# EAGLE library part EPM570T144C3N (library SamacSys_Parts)
CPLD, MAX II Source: Datasheet <https://www.intel.com/content/dam/altera-www/global/en_US/pdfs/literature/packaging/04R00366-04.pdf>
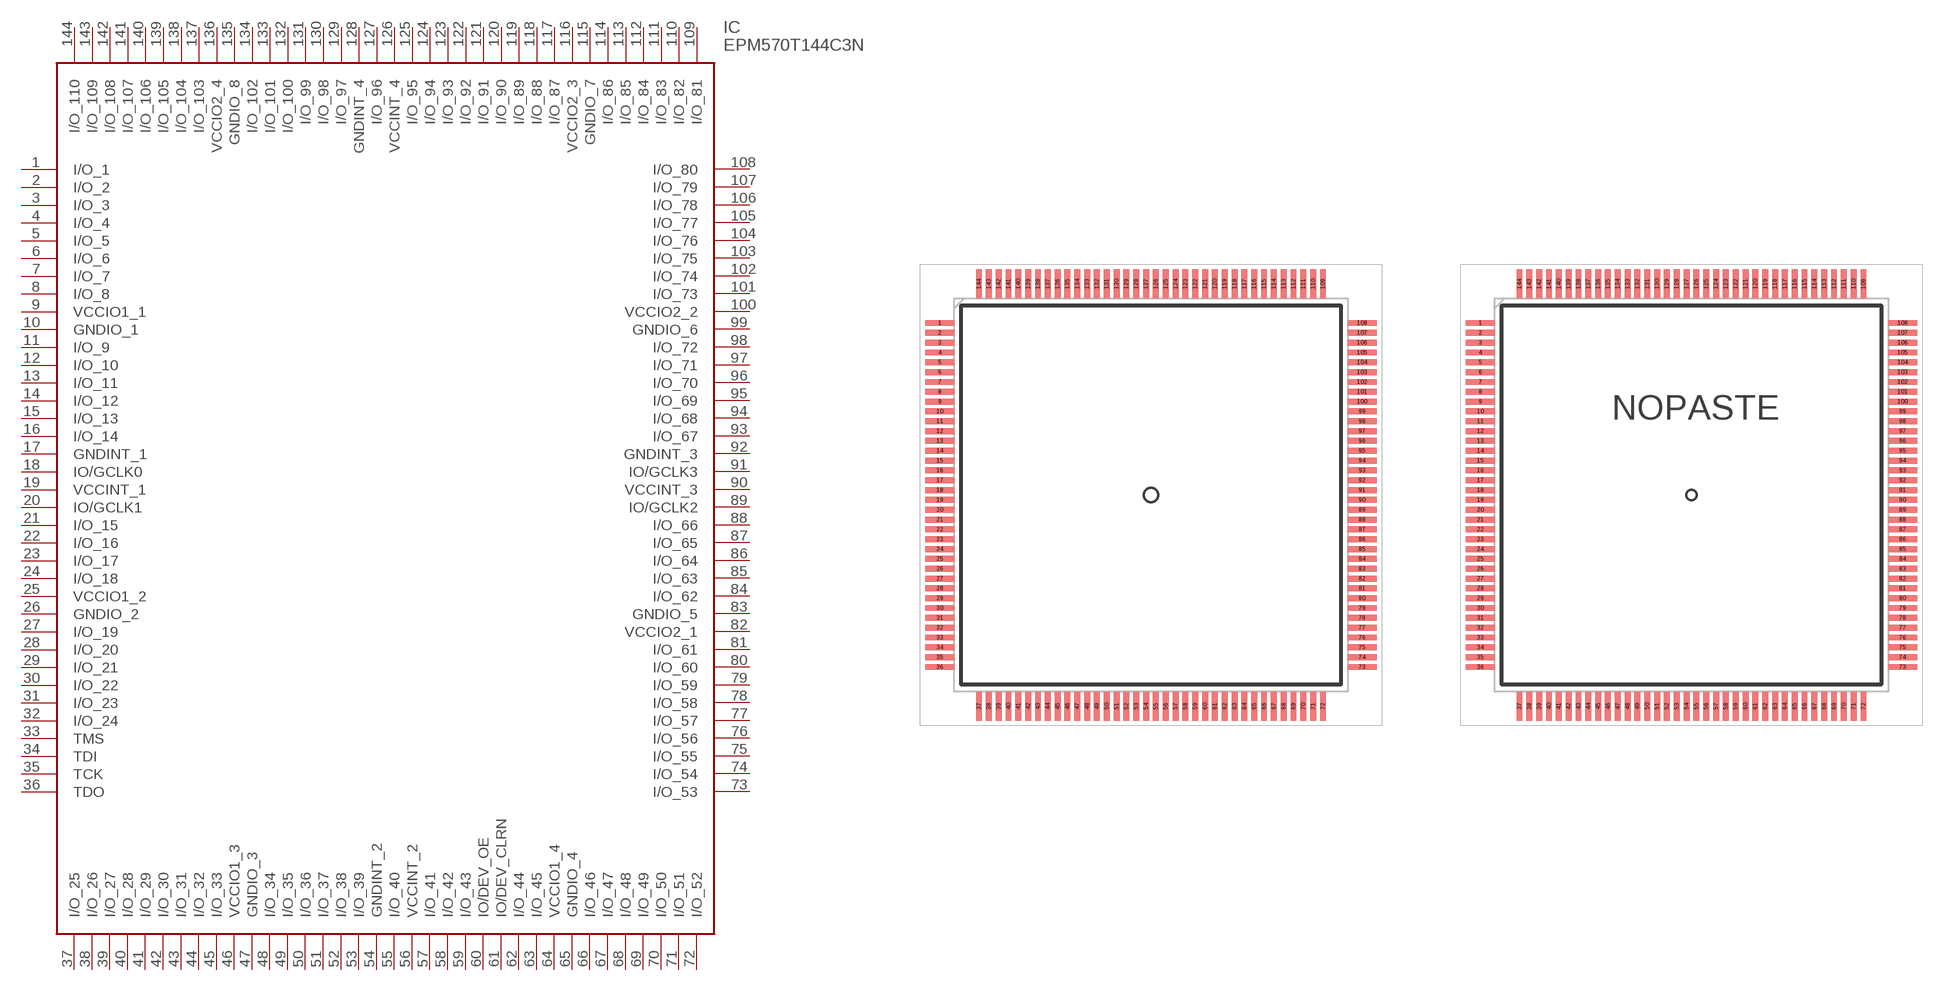
[diagram p214: symbol with the pads of QFP50P2200X2200X160-144N; footprints QFP50P2200X2200X160-144N, QFP50P2200X2000_NOPASTE]

Designator prefix IC

## EPM570T144C3NPASTE (DESCRIPTION: CPLD, MAX II; HEIGHT: 1.6mm; MANUFACTURER_NAME: Intel; MANUFACTURER_PART_NUMBER: EPM570T144C3N; MOUSER_PART_NUMBER: 989-EPM570T144C3N; MOUSER_PRICE-STOCK: https://www.mouser.co.uk/ProductDetail/Intel-Altera/EPM570T144C3N?qs=jblrfmjbeiFMgNt%252B7NATog%3D%3D)  [QFP50P2200X2200X160-144N]
1  I/O_1
2  I/O_2
3  I/O_3
4  I/O_4
5  I/O_5
6  I/O_6
7  I/O_7
8  I/O_8
9  VCCIO1_1
10  GNDIO_1
11  I/O_9
12  I/O_10
13  I/O_11
14  I/O_12
15  I/O_13
16  I/O_14
17  GNDINT_1
18  IO/GCLK0
19  VCCINT_1
20  IO/GCLK1
21  I/O_15
22  I/O_16
23  I/O_17
24  I/O_18
25  VCCIO1_2
26  GNDIO_2
27  I/O_19
28  I/O_20
29  I/O_21
30  I/O_22
31  I/O_23
32  I/O_24
33  TMS
34  TDI
35  TCK
36  TDO
37  I/O_25
38  I/O_26
39  I/O_27
40  I/O_28
41  I/O_29
42  I/O_30
43  I/O_31
44  I/O_32
45  I/O_33
46  VCCIO1_3
47  GNDIO_3
48  I/O_34
49  I/O_35
50  I/O_36
51  I/O_37
52  I/O_38
53  I/O_39
54  GNDINT_2
55  I/O_40
56  VCCINT_2
57  I/O_41
58  I/O_42
59  I/O_43
60  IO/DEV_OE
61  IO/DEV_CLRN
62  I/O_44
63  I/O_45
64  VCCIO1_4
65  GNDIO_4
66  I/O_46
67  I/O_47
68  I/O_48
69  I/O_49
70  I/O_50
71  I/O_51
72  I/O_52
73  I/O_53
74  I/O_54
75  I/O_55
76  I/O_56
77  I/O_57
78  I/O_58
79  I/O_59
80  I/O_60
81  I/O_61
82  VCCIO2_1
83  GNDIO_5
84  I/O_62
85  I/O_63
86  I/O_64
87  I/O_65
88  I/O_66
89  IO/GCLK2
90  VCCINT_3
91  IO/GCLK3
92  GNDINT_3
93  I/O_67
94  I/O_68
95  I/O_69
96  I/O_70
97  I/O_71
98  I/O_72
99  GNDIO_6
100  VCCIO2_2
101  I/O_73
102  I/O_74
103  I/O_75
104  I/O_76
105  I/O_77
106  I/O_78
107  I/O_79
108  I/O_80
109  I/O_81
110  I/O_82
111  I/O_83
112  I/O_84
113  I/O_85
114  I/O_86
115  GNDIO_7
116  VCCIO2_3
117  I/O_87
118  I/O_88
119  I/O_89
120  I/O_90
121  I/O_91
122  I/O_92
123  I/O_93
124  I/O_94
125  I/O_95
126  VCCINT_4
127  I/O_96
128  GNDINT_4
129  I/O_97
130  I/O_98
131  I/O_99
132  I/O_100
133  I/O_101
134  I/O_102
135  GNDIO_8
136  VCCIO2_4
137  I/O_103
138  I/O_104
139  I/O_105
140  I/O_106
141  I/O_107
142  I/O_108
143  I/O_109
144  I/O_110

## EPM570T144C3NNOPASTE  [QFP50P2200X2000_NOPASTE]
Pads as for QFP50P2200X2200X160-144N

## Footprint QFP50P2200X2200X160-144N (pad centres in mm)
144-Pin TQFP Packag
smd 1.475 x 0.3: 1 -10.738,8.75; 2 -10.738,8.25; 3 -10.738,7.75; 4 -10.738,7.25; 5 -10.738,6.75; 6 -10.738,6.25; 7 -10.738,5.75; 8 -10.738,5.25; 9 -10.738,4.75; 10 -10.738,4.25; 11 -10.738,3.75; 12 -10.738,3.25; 13 -10.738,2.75; 14 -10.738,2.25; 15 -10.738,1.75; 16 -10.738,1.25; 17 -10.738,0.75; 18 -10.738,0.25; 19 -10.738,-0.25; 20 -10.738,-0.75; 21 -10.738,-1.25; 22 -10.738,-1.75; 23 -10.738,-2.25; 24 -10.738,-2.75; 25 -10.738,-3.25; 26 -10.738,-3.75; 27 -10.738,-4.25; 28 -10.738,-4.75; 29 -10.738,-5.25; 30 -10.738,-5.75; 31 -10.738,-6.25; 32 -10.738,-6.75; 33 -10.738,-7.25; 34 -10.738,-7.75; 35 -10.738,-8.25; 36 -10.738,-8.75; 73 10.738,-8.75; 74 10.738,-8.25; 75 10.738,-7.75; 76 10.738,-7.25; 77 10.738,-6.75; 78 10.738,-6.25; 79 10.738,-5.75; 80 10.738,-5.25; 81 10.738,-4.75; 82 10.738,-4.25; 83 10.738,-3.75; 84 10.738,-3.25; 85 10.738,-2.75; 86 10.738,-2.25; 87 10.738,-1.75; 88 10.738,-1.25; 89 10.738,-0.75; 90 10.738,-0.25; 91 10.738,0.25; 92 10.738,0.75; 93 10.738,1.25; 94 10.738,1.75; 95 10.738,2.25; 96 10.738,2.75; 97 10.738,3.25; 98 10.738,3.75; 99 10.738,4.25; 100 10.738,4.75; 101 10.738,5.25; 102 10.738,5.75; 103 10.738,6.25; 104 10.738,6.75; 105 10.738,7.25; 106 10.738,7.75; 107 10.738,8.25; 108 10.738,8.75
smd 0.3 x 1.475: 37 -8.75,-10.738; 38 -8.25,-10.738; 39 -7.75,-10.738; 40 -7.25,-10.738; 41 -6.75,-10.738; 42 -6.25,-10.738; 43 -5.75,-10.738; 44 -5.25,-10.738; 45 -4.75,-10.738; 46 -4.25,-10.738; 47 -3.75,-10.738; 48 -3.25,-10.738; 49 -2.75,-10.738; 50 -2.25,-10.738; 51 -1.75,-10.738; 52 -1.25,-10.738; 53 -0.75,-10.738; 54 -0.25,-10.738; 55 0.25,-10.738; 56 0.75,-10.738; 57 1.25,-10.738; 58 1.75,-10.738; 59 2.25,-10.738; 60 2.75,-10.738; 61 3.25,-10.738; 62 3.75,-10.738; 63 4.25,-10.738; 64 4.75,-10.738; 65 5.25,-10.738; 66 5.75,-10.738; 67 6.25,-10.738; 68 6.75,-10.738; 69 7.25,-10.738; 70 7.75,-10.738; 71 8.25,-10.738; 72 8.75,-10.738; 109 8.75,10.738; 110 8.25,10.738; 111 7.75,10.738; 112 7.25,10.738; 113 6.75,10.738; 114 6.25,10.738; 115 5.75,10.738; 116 5.25,10.738; 117 4.75,10.738; 118 4.25,10.738; 119 3.75,10.738; 120 3.25,10.738; 121 2.75,10.738; 122 2.25,10.738; 123 1.75,10.738; 124 1.25,10.738; 125 0.75,10.738; 126 0.25,10.738; 127 -0.25,10.738; 128 -0.75,10.738; 129 -1.25,10.738; 130 -1.75,10.738; 131 -2.25,10.738; 132 -2.75,10.738; 133 -3.25,10.738; 134 -3.75,10.738; 135 -4.25,10.738; 136 -4.75,10.738; 137 -5.25,10.738; 138 -5.75,10.738; 139 -6.25,10.738; 140 -6.75,10.738; 141 -7.25,10.738; 142 -7.75,10.738; 143 -8.25,10.738; 144 -8.75,10.738

## Footprint QFP50P2200X2000_NOPASTE (pad centres in mm)
smd 1.475 x 0.3: 1 -10.738,8.75; 2 -10.738,8.25; 3 -10.738,7.75; 4 -10.738,7.25; 5 -10.738,6.75; 6 -10.738,6.25; 7 -10.738,5.75; 8 -10.738,5.25; 9 -10.738,4.75; 10 -10.738,4.25; 11 -10.738,3.75; 12 -10.738,3.25; 13 -10.738,2.75; 14 -10.738,2.25; 15 -10.738,1.75; 16 -10.738,1.25; 17 -10.738,0.75; 18 -10.738,0.25; 19 -10.738,-0.25; 20 -10.738,-0.75; 21 -10.738,-1.25; 22 -10.738,-1.75; 23 -10.738,-2.25; 24 -10.738,-2.75; 25 -10.738,-3.25; 26 -10.738,-3.75; 27 -10.738,-4.25; 28 -10.738,-4.75; 29 -10.738,-5.25; 30 -10.738,-5.75; 31 -10.738,-6.25; 32 -10.738,-6.75; 33 -10.738,-7.25; 34 -10.738,-7.75; 35 -10.738,-8.25; 36 -10.738,-8.75; 73 10.738,-8.75; 74 10.738,-8.25; 75 10.738,-7.75; 76 10.738,-7.25; 77 10.738,-6.75; 78 10.738,-6.25; 79 10.738,-5.75; 80 10.738,-5.25; 81 10.738,-4.75; 82 10.738,-4.25; 83 10.738,-3.75; 84 10.738,-3.25; 85 10.738,-2.75; 86 10.738,-2.25; 87 10.738,-1.75; 88 10.738,-1.25; 89 10.738,-0.75; 90 10.738,-0.25; 91 10.738,0.25; 92 10.738,0.75; 93 10.738,1.25; 94 10.738,1.75; 95 10.738,2.25; 96 10.738,2.75; 97 10.738,3.25; 98 10.738,3.75; 99 10.738,4.25; 100 10.738,4.75; 101 10.738,5.25; 102 10.738,5.75; 103 10.738,6.25; 104 10.738,6.75; 105 10.738,7.25; 106 10.738,7.75; 107 10.738,8.25; 108 10.738,8.75
smd 0.3 x 1.475: 37 -8.75,-10.738; 38 -8.25,-10.738; 39 -7.75,-10.738; 40 -7.25,-10.738; 41 -6.75,-10.738; 42 -6.25,-10.738; 43 -5.75,-10.738; 44 -5.25,-10.738; 45 -4.75,-10.738; 46 -4.25,-10.738; 47 -3.75,-10.738; 48 -3.25,-10.738; 49 -2.75,-10.738; 50 -2.25,-10.738; 51 -1.75,-10.738; 52 -1.25,-10.738; 53 -0.75,-10.738; 54 -0.25,-10.738; 55 0.25,-10.738; 56 0.75,-10.738; 57 1.25,-10.738; 58 1.75,-10.738; 59 2.25,-10.738; 60 2.75,-10.738; 61 3.25,-10.738; 62 3.75,-10.738; 63 4.25,-10.738; 64 4.75,-10.738; 65 5.25,-10.738; 66 5.75,-10.738; 67 6.25,-10.738; 68 6.75,-10.738; 69 7.25,-10.738; 70 7.75,-10.738; 71 8.25,-10.738; 72 8.75,-10.738; 109 8.75,10.738; 110 8.25,10.738; 111 7.75,10.738; 112 7.25,10.738; 113 6.75,10.738; 114 6.25,10.738; 115 5.75,10.738; 116 5.25,10.738; 117 4.75,10.738; 118 4.25,10.738; 119 3.75,10.738; 120 3.25,10.738; 121 2.75,10.738; 122 2.25,10.738; 123 1.75,10.738; 124 1.25,10.738; 125 0.75,10.738; 126 0.25,10.738; 127 -0.25,10.738; 128 -0.75,10.738; 129 -1.25,10.738; 130 -1.75,10.738; 131 -2.25,10.738; 132 -2.75,10.738; 133 -3.25,10.738; 134 -3.75,10.738; 135 -4.25,10.738; 136 -4.75,10.738; 137 -5.25,10.738; 138 -5.75,10.738; 139 -6.25,10.738; 140 -6.75,10.738; 141 -7.25,10.738; 142 -7.75,10.738; 143 -8.25,10.738; 144 -8.75,10.738